# EAGLE library part 691233510006 (library Eagle_WR-TBL Rising Cage Clamp (rev20a))
WR-TBL Serie 2335 – 5.08 mm Double Level Horiz. Entry Modular w. Rising Cage, H=31.5mm KIND PROPERTIES Pitch 5.08 mm MATERIAL PROPERTIES Insulator Material PA66 Insulator Flammability Rating UL94 V-0 Contact Material Brass Contact Plating Tin Terminal Screw Material Steel Terminal Screw Plating Zinc Wire Guard Material Stainless Steel GENERAL INFORMATION Operating Temperature -40 up to +105 °C Compliance Lead free / RoHS ELECTRICAL PROPERTIES IR UL 20 A Working Voltage [UL] 300 V (AC) Withstanding Voltage [UL] 1600 V (AC) Contact Resistance [UL] 20 mΩ MECHANICAL PROPERTIES Wire Strip Length 6 up to 7 (mm) Screw M3 CERTIFICATION UL Approval E315414 PACKAGING PROPERTIES Packaging Box <https://www.we-online.com/catalog/media/o33247v209%20Family_WR-TBL_69123351000x.jpg> Details see: https://www.we-online.com/catalog/en/TBL_5_08_2335_DOUBLE_LEVEL_HORIZONTAL_ENTRY_MODULAR_W_RISING_CAGE_69123351000X/ Updated by Ella Wu 2019-11-25 2019(C) Wurth Elektronik
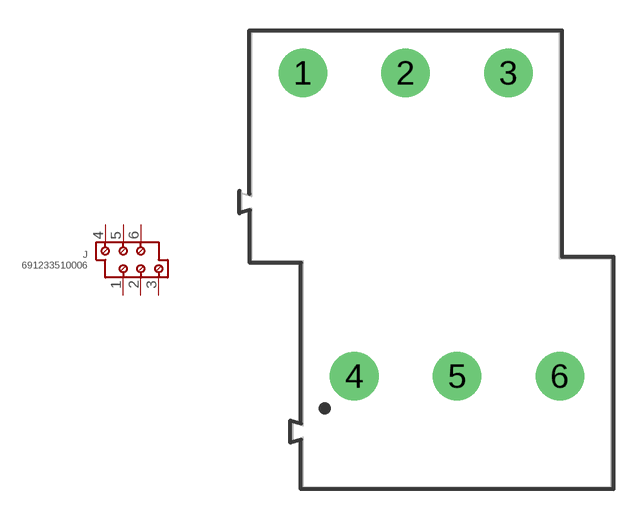
[diagram p13: symbol with the pads of 691233510006; footprint 691233510006]

Designator prefix J

## 691233510006 (IR-UL: 20A; PART-NUMBER: 691233510006; PINS: 6; PITCH: 5.08mm; TYPE: Double Level Horizontal; WIRE: 12 to 22 (AWG) 3.31 to 0.326 (mm²); WORKING-VOLTAGE-UL: 300V (AC))  [691233510006]
1  1  pas
2  2  pas
3  3  pas
4  4  pas
5  5  pas
6  6  pas

## Footprint 691233510006 (pad centres in mm)
WR-TBL Serie 2335 – 5.08 mm Double Level Horiz. Entry Modular w. Rising Cage, H=31.5mm Max Height =31.5mm , Pitch 5.08mm , 6 Pins
drill 1.6: 1 -7.62,15; 2 -2.54,15; 3 2.54,15; 4 -5.08,0; 5 0,0; 6 5.08,0